# Altium footprint library Other.PcbLib: 4 footprints
Each footprint in its own frame and in the unit in brackets; x right, y up, seen from the top. Pads: shape width x height; smd on the part's side, far side on the other; paste and mask are expansions set on the pad; w line width, h text height; cw(c..) or ccw(c..) is an arc to the next point about the centre after c.
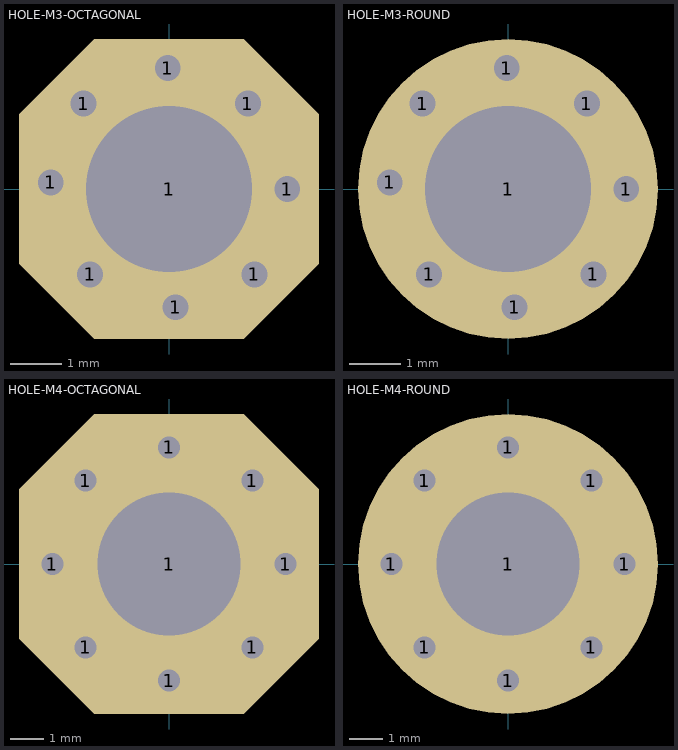
[diagram p0: the footprints below, top view; thin cyan lines are the x and y axes]

## HOLE-M3-OCTAGONAL [mil]
pads (9):
  round 40 hole 19.68: 1(-90,5) 1(-65,65) 1(-60,-65) 1(-1,92) 1(5,-90) 1(60,65) 1(65,-65) 1(90,0)
  oct 228.35x228.35 hole 125.98: 1(0,0)

## HOLE-M3-ROUND [mil]
pads (9):
  round 40 hole 19.68: 1(-90,5) 1(-65,65) 1(-60,-65) 1(-1,92) 1(5,-90) 1(60,65) 1(65,-65) 1(90,0)
  round 228.35 hole 125.98: 1(0,0)

## HOLE-M4-OCTAGONAL [mil]
pads (9):
  round 40 hole 26: 1(-137.8,0) 1(-98.43,-98.43) 1(-98.43,98.43) 1(0,-137.8) 1(0,137.8) 1(98.43,-98.43) 1(98.43,98.43) 1(137.8,0)
  oct 354.33x354.33 hole 169.29: 1(0,0)

## HOLE-M4-ROUND [mil]
pads (9):
  round 40 hole 26: 1(-137.8,0) 1(-98.43,-98.43) 1(-98.43,98.43) 1(0,-137.8) 1(0,137.8) 1(98.43,-98.43) 1(98.43,98.43) 1(137.8,0)
  round 354.33 hole 169.29: 1(0,0)